# Altium footprint library 532610271.PcbLib: 1 footprints
Each footprint in its own frame and in the unit in brackets; x right, y up, seen from the top. Pads: shape width x height; smd on the part's side, far side on the other; paste and mask are expansions set on the pad; w line width, h text height; cw(c..) or ccw(c..) is an arc to the next point about the centre after c.
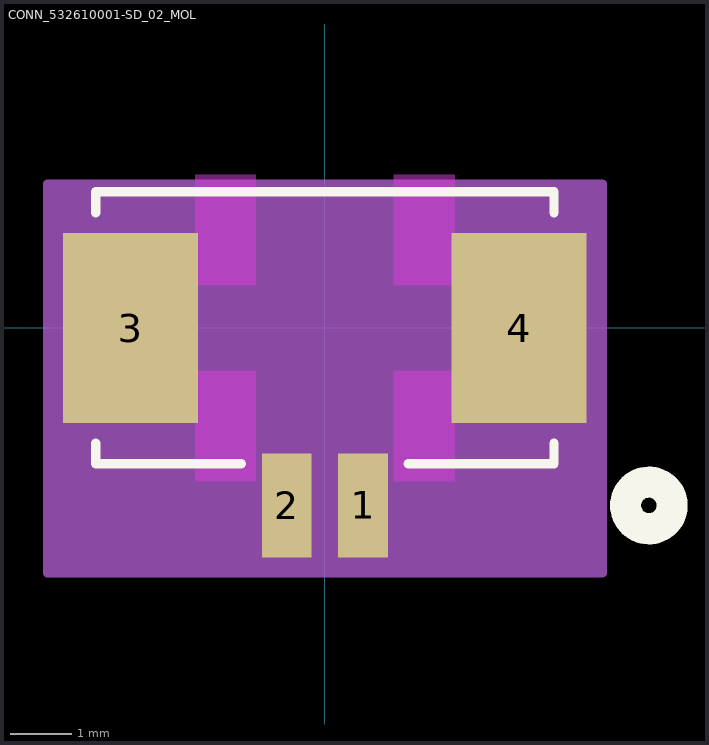
[diagram p0: the footprint, top view; thin cyan lines are the x and y axes]

## CONN_532610001-SD_02_MOL [mil]
pads (4):
  rect 32x67 smd paste+0 mask+0: 1(24.61,-114.35) 2(-24.61,-114.35)
  rect 87x122 smd paste+0 mask+0: 3(-125,-0.18) 4(125,-0.18)
Top Layer keep-out:
  region: -44.48,98.31 -83.48,98.31 -83.48,27.32 -44.48,27.32
  region: 83.48,98.31 44.48,98.31 44.48,27.32 83.48,27.32
  region: -44.48,-27.67 -83.48,-27.67 -83.48,-98.67 -44.48,-98.67
  region: 83.48,-27.67 44.48,-27.67 44.48,-98.67 83.48,-98.67
Top Overlay:
  circle w20: c208.5,-114.35 r15
  lines w6: -147.5,-74.28 -147.5,-87.5 -53.71,-87.5 ; -147.5,73.92 -147.5,87.5 147.5,87.5 147.5,73.92 ; 53.71,-87.5 147.5,-87.5 147.5,-74.28
Bottom Overlay:
  circle w20: c208.5,-114.35 r15
Mechanical 13:
  circle w20: c24.61,-114.35 r15
  lines w1: -142.5,-82.5 142.5,-82.5 142.5,82.5 -142.5,82.5 -142.5,-82.5
Mechanical 15:
  region: 178.5,92.5 -178.5,92.5 -178.5,-157.85 178.5,-157.85
  lines w6: -178.5,-157.85 -178.5,92.5 178.5,92.5 178.5,-157.85 -178.5,-157.85
3D body "0532610271.stp": height 125.98, standoff -7.87, extent -150.59,-114.72 150.59,90